# Altium footprint library LARIX_V5.PcbLib: 39 footprints (part 2 of 3)
Each footprint in its own frame and in the unit in brackets; x right, y up, seen from the top. Pads: shape width x height; smd on the part's side, far side on the other; paste and mask are expansions set on the pad; w line width, h text height; cw(c..) or ccw(c..) is an arc to the next point about the centre after c.
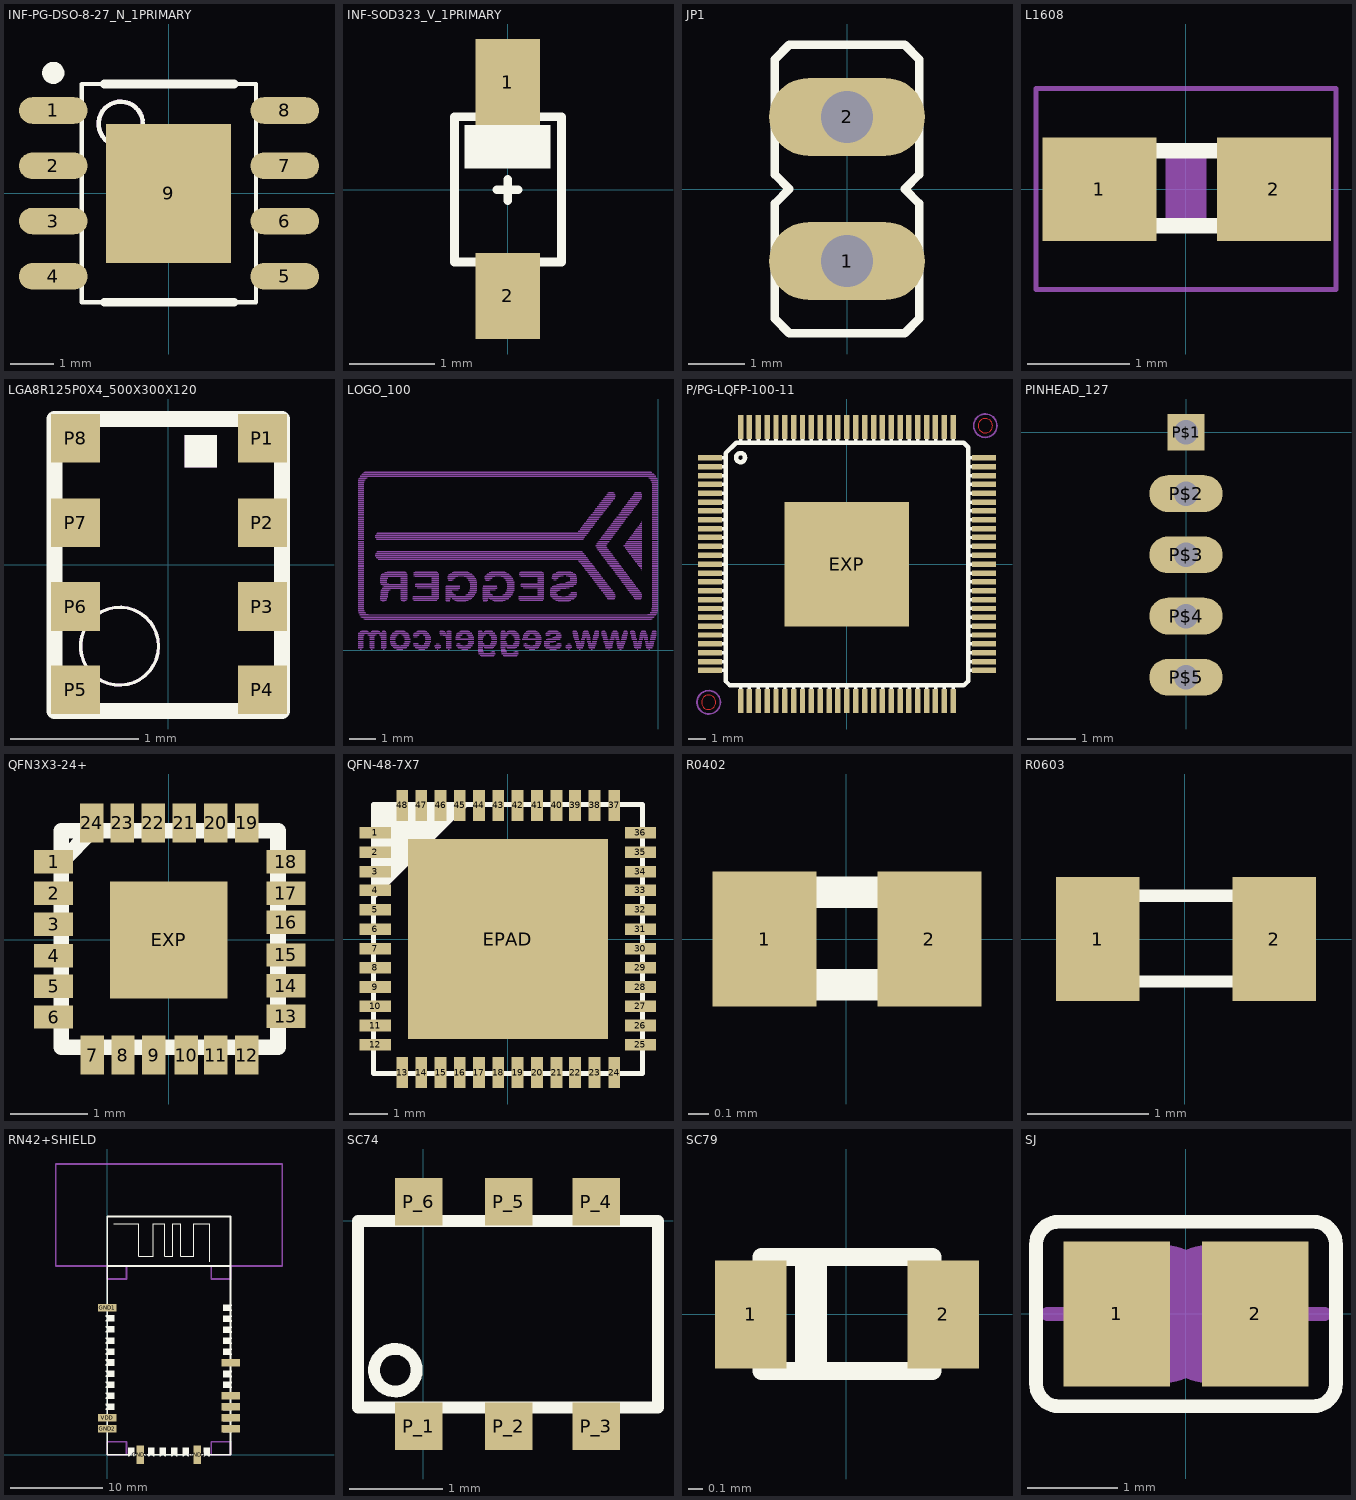
[diagram p1: the footprints below, top view; thin cyan lines are the x and y axes]

## INF-PG-DSO-8-27_N_1PRIMARY [mil] "INF-PG-DSO-8-27_N_1PRIMARY"
pads (9):
  rrect100% 62x24 smd: 1(-104.33,75) 2(-104.33,25) 3(-104.33,-25) 4(-104.33,-75) 5(105,-75) 6(105,-25) 7(105,25) 8(105,75)
  rect 113x126 smd: 9(0,0)
Top Overlay:
  circle w10: c-104.33,109 r5
  circle w4: c-43.31,63 r20
  circle w10: c-104.33,109 r5
  rectangle: -120,70 -80,80
  rectangle: -120,20 -80,30
  rectangle: -120,-30 -80,-20
  rectangle: -120,-80 -80,-70
  rectangle: 80,70 120,80
  rectangle: 80,20 120,30
  rectangle: 80,-30 120,-20
  rectangle: 80,-80 120,-70
  lines w4: -78.74,-98.43 -78.74,99 79,99 79,-98.43 -78.74,-98.43
  lines w8: -58.07,-98.43 59,-98.43 ; -58.07,99 59,99
Mechanical 2:
Mechanical 4:
Mechanical 13:
  circle w4: c-43.31,63 r20
  rectangle: -120,70 -80,80
  rectangle: -120,20 -80,30
  rectangle: -120,-30 -80,-20
  rectangle: -120,-80 -80,-70
  rectangle: 80,70 120,80
  rectangle: 80,20 120,30
  rectangle: 80,-30 120,-20
  rectangle: 80,-80 120,-70
  lines w4: -19.68,0 20,0 ; 0,-19.68 0,20
3D body: height 68.9, standoff 0.15, extent -123.26,-95 123.26,101.85

## INF-SOD323_V_1PRIMARY [mil] "INF-SOD323_V_1PRIMARY"
pads (2):
  rect 30x40 smd: 1(0,50) 2(0,-49.21)
Top Overlay:
  rectangle: -10,-55 10,-35
  rectangle: -10,35 10,55
  rectangle: -5,35 5,50
  rectangle: -20,10 20,30
  rectangle: -10,-55 10,-35
  rectangle: -10,35 10,55
  rectangle: -5,35 5,50
  rectangle: -20,10 20,30
  lines w4: -5,0 5,0 ; 0,-5 0,5 ; -24.61,-33.46 25,-33.46 25,34 -24.61,34 -24.61,-33.46
Mechanical 2:
Mechanical 4:
3D body: height 43.31, standoff 0, extent -24.6,-53.14 24.6,53.16

## JP1 [mil] "JP1"
pads (2):
  oval 108x54 hole 36: 1(0,-50) 2(0,50)
Top Overlay:
  lines w6: -50,-90 -40,-100 40,-100 50,-90 50,-10 40,0 50,10 50,90 40,100 -40,100 -50,90 -50,10 -40,0 -50,-10 -50,-90
Mechanical 2:
Mechanical 4:
Mechanical 16:
  rectangle: -12,-62 12,-38
  rectangle: -12,38 12,62

## L1608 [mil] "L1608"
pads (2):
  rect 44x40 smd: 1(-33.46,0) 2(34,0)
Top Overlay:
  rectangle: 17,-17 33,17
  rectangle: -33,-17 -17,17
  rectangle: 17,-17 33,17
  rectangle: -33,-17 -17,17
  lines w6: -17.01,-14.02 18,-14.02 ; -17.01,15 18,15
Mechanical 2:
Mechanical 4:
Mechanical 6:
  rectangle: -7.87,-15.75 8,16
  rectangle: -7.87,-15.75 8,16
Mechanical 16:
  lines w2: -57.99,-38.7 58,-38.7 58,39 -57.99,39 -57.99,-38.7
3D body: height 37.4, standoff 0, extent -31.49,-15.74 31.5,15.75

## LGA8R125P0X4_500X300X120 [mil] "LGA8R125P0X4_500X300X120"
pads (8):
  rect 15x15 smd: P1(29,39) P2(29,13) P3(29,-12.8) P4(29,-38.39) P5(-28.54,-38.39) P6(-28.54,-12.8) P7(-28.54,13) P8(-28.54,39)
Top Overlay:
  circle w1: c-15,-25 r12
  rectangle: 5,30 15,40
  lines w5: -35,-45 -35,45 35,45 35,-45 -35,-45
Mechanical 2:
Mechanical 4:
Mechanical 13:
  circle w1: c-15,-25 r12
  rectangle: 5,30 15,40
3D body: height 35, standoff 1.14, extent -49.21,-59.06 49.22,59.05

## LOGO_100 [mil] "LOGO_100"
Mechanical 16:
  drawing of 1903 lines, arcs and shapes, not listed

## P/PG-LQFP-100-11 [mil] "P/PG-LQFP-100-11"
pads (101):
  rect 54x12 smd: 1(-304.13,237) 2(-304.13,217) 3(-304.13,197) 4(-304.13,178) 5(-304.13,158) 6(-304.13,138) 7(-304.13,119) 8(-304.13,99) 9(-304.13,79) 10(-304.13,60) 11(-304.13,40) 12(-304.13,20) 13(-304.13,0) 14(-304.13,-19.68) 15(-304.13,-39.37) 16(-304.13,-59.06) 17(-304.13,-78.74) 18(-304.13,-98.43) 19(-304.13,-118.11) 20(-304.13,-137.8) 21(-304.13,-157.48) 22(-304.13,-177.17) 23(-304.13,-196.85) 24(-304.13,-216.54) 25(-304.13,-236.22) 51(305,-236.22) 52(305,-216.54) 53(305,-196.85) 54(305,-177.17) 55(305,-157.48) 56(305,-137.8) 57(305,-118.11) 58(305,-98.43) 59(305,-78.74) 60(305,-59.06) 61(305,-39.37) 62(305,-19.68) 63(305,0) 64(305,20) 65(305,40) 66(305,60) 67(305,79) 68(305,99) 69(305,119) 70(305,138) 71(305,158) 72(305,178) 73(305,197) 74(305,217) 75(305,237)
  rect 12x54 smd: 26(-236.22,-304.13) 27(-216.54,-304.13) 28(-196.85,-304.13) 29(-177.17,-304.13) 30(-157.48,-304.13) 31(-137.8,-304.13) 32(-118.11,-304.13) 33(-98.43,-304.13) 34(-78.74,-304.13) 35(-59.06,-304.13) 36(-39.37,-304.13) 37(-19.68,-304.13) 38(0,-304.13) 39(20,-304.13) 40(40,-304.13) 41(60,-304.13) 42(79,-304.13) 43(99,-304.13) 44(119,-304.13) 45(138,-304.13) 46(158,-304.13) 47(178,-304.13) 48(197,-304.13) 49(217,-304.13) 50(237,-304.13) 76(237,305) 77(217,305) 78(197,305) 79(178,305) 80(158,305) 81(138,305) 82(119,305) 83(99,305) 84(79,305) 85(60,305) 86(40,305) 87(20,305) 88(0,305) 89(-19.68,305) 90(-39.37,305) 91(-59.06,305) 92(-78.74,305) 93(-98.43,305) 94(-118.11,305) 95(-137.8,305) 96(-157.48,305) 97(-177.17,305) 98(-196.85,305) 99(-216.54,305) 100(-236.22,305)
  rect 276x276 smd: EXP(0,0)
Top Layer:
  circle w0: c-307.09,-307.09 r16
  circle w0: c308,308 r16
  circle w0: c-307.09,-307.09 r16
  circle w0: c308,308 r16
Top Overlay:
  drawing of 220 lines, arcs and shapes, not listed
Top Paste:
  region: -23.62,24 -23.62,-23.62 24,-23.62 24,24
  region: -80.9,23.81 -80.9,-23.43 -33.27,-23.43 -33.27,23.81
  region: -137.98,23.81 -137.98,-23.43 -90.36,-23.43 -90.36,23.81
  region: -23.31,81.31 -23.31,33.69 23.69,33.69 23.69,81.31
  region: -80.59,81.12 -80.59,33.87 -33.59,33.87 -33.59,81.12
  region: -137.67,81.12 -137.67,33.88 -90.67,33.88 -90.67,81.12
  region: -137.67,138.12 -137.67,90.88 -90.67,90.88 -90.67,138.12
  region: -80.59,138.13 -80.59,90.88 -33.59,90.88 -33.59,138.13
  region: -23.31,138.31 -23.31,90.69 23.69,90.69 23.69,138.31
  region: -80.71,-90.55 -80.71,-137.79 -33.46,-137.79 -33.46,-90.55
  region: -137.79,-90.55 -137.79,-137.79 -90.55,-137.79 -90.55,-90.55
  region: -80.71,-33.46 -80.71,-80.71 -33.46,-80.71 -33.46,-33.46
  region: -137.79,-33.46 -137.79,-80.71 -90.55,-80.71 -90.55,-33.46
  region: 90.88,-90.67 90.88,-137.67 138.12,-137.67 138.12,-90.67
  region: 33.88,-90.67 33.88,-137.67 81.12,-137.67 81.12,-90.67
  region: 90.88,-33.59 90.88,-80.59 138.12,-80.59 138.12,-33.59
  region: 33.88,-33.59 33.88,-80.59 81.12,-80.59 81.12,-33.59
  region: -23.43,-33.27 -23.43,-80.9 23.81,-80.9 23.81,-33.27
  region: -23.43,-90.36 -23.43,-137.98 23.81,-137.98 23.81,-90.36
  region: 91,81 91,34 138,34 138,81
  region: 34,81 34,34 81,34 81,81
  region: 91,138 91,91 138,91 138,138
  region: 34,138 34,91 81,91 81,138
  region: 33.69,23.69 33.69,-23.31 81.31,-23.31 81.31,23.69
  region: 90.69,23.69 90.69,-23.31 138.31,-23.31 138.31,23.69
  region: -23.62,24 -23.62,-23.62 24,-23.62 24,24
  region: -80.9,23.81 -80.9,-23.43 -33.27,-23.43 -33.27,23.81
  region: -137.98,23.81 -137.98,-23.43 -90.36,-23.43 -90.36,23.81
  region: -23.31,81.31 -23.31,33.69 23.69,33.69 23.69,81.31
  region: -80.59,81.12 -80.59,33.87 -33.59,33.87 -33.59,81.12
  region: -137.67,81.12 -137.67,33.88 -90.67,33.88 -90.67,81.12
  region: -137.67,138.12 -137.67,90.88 -90.67,90.88 -90.67,138.12
  region: -80.59,138.13 -80.59,90.88 -33.59,90.88 -33.59,138.13
  region: -23.31,138.31 -23.31,90.69 23.69,90.69 23.69,138.31
  region: -80.71,-90.55 -80.71,-137.79 -33.46,-137.79 -33.46,-90.55
  region: -137.79,-90.55 -137.79,-137.79 -90.55,-137.79 -90.55,-90.55
  region: -80.71,-33.46 -80.71,-80.71 -33.46,-80.71 -33.46,-33.46
  region: -137.79,-33.46 -137.79,-80.71 -90.55,-80.71 -90.55,-33.46
  region: 90.88,-90.67 90.88,-137.67 138.12,-137.67 138.12,-90.67
  region: 33.88,-90.67 33.88,-137.67 81.12,-137.67 81.12,-90.67
  region: 90.88,-33.59 90.88,-80.59 138.12,-80.59 138.12,-33.59
  region: 33.88,-33.59 33.88,-80.59 81.12,-80.59 81.12,-33.59
  region: -23.43,-33.27 -23.43,-80.9 23.81,-80.9 23.81,-33.27
  region: -23.43,-90.36 -23.43,-137.98 23.81,-137.98 23.81,-90.36
  region: 91,81 91,34 138,34 138,81
  region: 34,81 34,34 81,34 81,81
  region: 91,138 91,91 138,91 138,138
  region: 34,138 34,91 81,91 81,138
  region: 33.69,23.69 33.69,-23.31 81.31,-23.31 81.31,23.69
  region: 90.69,23.69 90.69,-23.31 138.31,-23.31 138.31,23.69
Top Solder:
  circle w0: c-307.09,-307.09 r26
  circle w0: c308,308 r26
  circle w0: c-307.09,-307.09 r26
  circle w0: c308,308 r26
Mechanical 2:
Mechanical 4:
Mechanical 8:
  circle w4: c-307.09,-307.09 r26
  circle w4: c308,308 r26
  circle w4: c-307.09,-307.09 r26
  circle w4: c308,308 r26
3D body: height 64.99, standoff 2, extent -315.24,-315.24 315.25,315.25

## PINHEAD_127 [mil] "PINHEAD_127"
pads (5):
  rect 30x30 hole 20: P$1(0,0)
  oval 60x30 hole 20: P$2(0,-50) P$3(0,-100) P$4(0,-150) P$5(0,-200)

## QFN3X3-24+ [mil] "QFN3X3-24+"
pads (25):
  rect 20x12 smd: 1(-59.06,40) 2(-59.06,24) 3(-59.06,8) 4(-59.06,-8.03) 5(-59.06,-23.78) 6(-59.06,-39.53) 13(60,-39.21) 14(60,-23.46) 15(60,-7.72) 16(60,9) 17(60,24) 18(60,40)
  rect 12x20 smd: 7(-39.21,-59.06) 8(-23.46,-59.06) 9(-7.72,-59.06) 10(9,-59.06) 11(24,-59.06) 12(40,-59.06) 19(40,60) 20(24,60) 21(8,60) 22(-8.03,60) 23(-23.78,60) 24(-39.53,60)
  rect 60x60 smd: EXP(0,0)
Top Overlay:
  lines w8: -53.09,42 -41.34,54 ; -55.06,-55.06 56,-55.06 56,56 -55.06,56 -55.06,-55.06
Top Solder:
  region: 0.49,77.51 0.49,43.49 15.49,43.49 15.49,77.51
  region: -15.38,77.38 -15.38,43.62 -0.38,43.62 -0.38,77.38
  rectangle: -31.5,-31.5 32,32
  region: 16.5,77.5 16.5,43.5 31.5,43.5 31.5,77.5
  region: 32,77 32,44 47,44 47,77
  region: -31.28,77.23 -31.28,43.77 -16.28,43.77 -16.28,77.23
  region: -47.03,77.23 -47.03,43.77 -32.03,43.77 -32.03,77.23
  region: 77,1 44,1 44,-15.59 77,-15.59
  region: 77,16 44,16 44,1 77,1
  region: 77,-15.59 44,-15.59 44,-31.34 77,-31.34
  region: 77,-31.34 44,-31.34 44,-47.09 77,-47.09
  region: 77,32 44,32 44,16 77,16
  region: 77,48 44,48 44,32 77,32
  rectangle: -76.77,-0.16 -43.3,16
  rectangle: -76.77,-15.9 -43.3,-0.16
  rectangle: -76.77,16 -43.3,32
  rectangle: -76.77,32 -43.3,48
  rectangle: -76.77,-31.65 -43.3,-15.9
  rectangle: -76.77,-47.4 -43.3,-31.65
  region: 0.65,-77.26 0.65,-42.81 -15.1,-42.81 -15.1,-77.26
  region: 16.02,-76.89 16.02,-43.19 0.28,-43.19 0.28,-76.89
  region: -15.59,-76.77 -15.59,-43.31 -31.34,-43.31 -31.34,-76.77
  region: -31.34,-76.77 -31.34,-43.31 -47.08,-43.31 -47.08,-76.77
  region: 32.37,-76.54 32.37,-43.54 16.63,-43.54 16.63,-76.54
  region: 47.87,-77.04 47.87,-43.04 32.13,-43.04 32.13,-77.04
Mechanical 2:
Mechanical 4:
3D body: height 34.65, standoff -0.79, extent -79.53,-80 79.53,79.06

## QFN-48-7X7 [mil] "QFN-48-7X7"
pads (49):
  rect 32x12 smd: 1(-135.83,109) 2(-135.83,89) 3(-135.83,69) 4(-135.83,50) 5(-135.83,30) 6(-135.83,10) 7(-135.83,-9.84) 8(-135.83,-29.53) 9(-135.83,-49.21) 10(-135.83,-68.9) 11(-135.83,-88.58) 12(-135.83,-108.27) 25(136,-108.27) 26(136,-88.58) 27(136,-68.9) 28(136,-49.21) 29(136,-29.53) 30(136,-9.84) 31(136,10) 32(136,30) 33(136,50) 34(136,69) 35(136,89) 36(136,109)
  rect 12x32 smd: 13(-108.27,-136.81) 14(-88.58,-136.81) 15(-68.9,-136.81) 16(-49.21,-136.81) 17(-29.53,-136.81) 18(-9.84,-136.81) 19(10,-136.81) 20(30,-136.81) 21(50,-136.81) 22(69,-136.81) 23(89,-136.81) 24(109,-136.81) 37(109,137) 38(89,137) 39(69,137) 40(50,137) 41(30,137) 42(10,137) 43(-9.84,137) 44(-29.53,137) 45(-49.21,137) 46(-68.9,137) 47(-88.58,137) 48(-108.27,137)
  rect 205x205 smd: EPAD(0,0)
Top Overlay:
  region: -137.8,138 -137.8,40 -39.37,138
  lines w5: -137.8,-118.11 -137.8,-137.8 ; -137.8,119 -137.8,138 ; -118.11,-137.8 -137.8,-137.8 ; -118.11,138 -137.8,138 ; 119,-137.8 138,-137.8 ; 119,138 138,138 ; 138,-118.11 138,-137.8 ; 138,119 138,138 ; -137.8,-137.8 -137.8,138 ; -137.8,-137.8 138,-137.8 ; -137.8,138 138,138 ; 138,-137.8 138,138
Top Paste:
  rectangle: -90.55,-90.55 91,91
  region: -113.27,151.76 -113.27,122.24 -103.27,122.24 -103.27,151.76
  region: -103.35,-151.57 -103.35,-122.05 -113.19,-122.05 -113.19,-151.57
  rectangle: -150.59,-113.19 -121.06,-103.35
  region: 151,114 122,114 122,104 151,104
  region: 104,152 104,122 114,122 114,152
  region: -93.58,151.76 -93.58,122.24 -83.58,122.24 -83.58,151.76
  region: -73.9,151.76 -73.9,122.24 -63.9,122.24 -63.9,151.76
  region: -54.21,151.76 -54.21,122.24 -44.21,122.24 -44.21,151.76
  region: -34.53,151.76 -34.53,122.24 -24.53,122.24 -24.53,151.76
  region: -14.8,151.8 -14.8,122.2 -4.8,122.2 -4.8,151.8
  region: 5.04,151.96 5.04,122.04 15.04,122.04 15.04,151.96
  region: 25,152 25,122 35,122 35,152
  region: 44.5,151.5 44.5,122.5 54.5,122.5 54.5,151.5
  region: 64.5,151.5 64.5,122.5 74.5,122.5 74.5,151.5
  region: 84,152 84,122 94,122 94,152
  region: 151,94 122,94 122,84 151,84
  region: 151,74 122,74 122,64 151,64
  region: 151,55 122,55 122,45 151,45
  region: 151,35 122,35 122,25 151,25
  region: 151,15 122,15 122,5 151,5
  region: 151,-4.92 122,-4.92 122,-14.76 151,-14.76
  region: 151,-24.61 122,-24.61 122,-34.45 151,-34.45
  region: 151,-44.29 122,-44.29 122,-54.13 151,-54.13
  region: 151,-63.98 122,-63.98 122,-73.82 151,-73.82
  region: 151,-83.66 122,-83.66 122,-93.5 151,-93.5
  region: 151,-103.35 122,-103.35 122,-113.19 151,-113.19
  region: 113.92,-151.81 113.92,-121.81 104.08,-121.81 104.08,-151.81
  region: 93.92,-151.81 93.92,-121.81 84.08,-121.81 84.08,-151.81
  region: 74.42,-151.31 74.42,-122.31 64.58,-122.31 64.58,-151.31
  region: 54.42,-151.31 54.42,-122.31 44.58,-122.31 44.58,-151.31
  region: 34.92,-151.81 34.92,-121.81 25.08,-121.81 25.08,-151.81
  region: 14.96,-151.77 14.96,-121.85 5.12,-121.85 5.12,-151.77
  region: -4.88,-151.61 -4.88,-122.01 -14.72,-122.01 -14.72,-151.61
  region: -24.61,-151.57 -24.61,-122.05 -34.45,-122.05 -34.45,-151.57
  region: -44.29,-151.57 -44.29,-122.05 -54.13,-122.05 -54.13,-151.57
  region: -63.98,-151.57 -63.98,-122.05 -73.82,-122.05 -73.82,-151.57
  region: -83.66,-151.57 -83.66,-122.05 -93.5,-122.05 -93.5,-151.57
  rectangle: -150.59,-93.5 -121.06,-83.66
  rectangle: -150.59,-73.82 -121.06,-63.98
  rectangle: -150.59,-54.13 -121.06,-44.29
  rectangle: -150.59,-34.45 -121.06,-24.61
  rectangle: -150.59,-14.76 -121.06,-4.92
  rectangle: -150.59,5 -121.06,15
  rectangle: -150.59,25 -121.06,35
  rectangle: -150.59,45 -121.06,55
  rectangle: -150.59,64 -121.06,74
  rectangle: -150.59,84 -121.06,94
  rectangle: -150.59,104 -121.06,114
  rectangle: -90.55,-90.55 91,91
  region: -113.27,151.76 -113.27,122.24 -103.27,122.24 -103.27,151.76
  region: -103.35,-151.57 -103.35,-122.05 -113.19,-122.05 -113.19,-151.57
  rectangle: -150.59,-113.19 -121.06,-103.35
  region: 151,114 122,114 122,104 151,104
  region: 104,152 104,122 114,122 114,152
  region: -93.58,151.76 -93.58,122.24 -83.58,122.24 -83.58,151.76
  region: -73.9,151.76 -73.9,122.24 -63.9,122.24 -63.9,151.76
  region: -54.21,151.76 -54.21,122.24 -44.21,122.24 -44.21,151.76
  region: -34.53,151.76 -34.53,122.24 -24.53,122.24 -24.53,151.76
  region: -14.8,151.8 -14.8,122.2 -4.8,122.2 -4.8,151.8
  region: 5.04,151.96 5.04,122.04 15.04,122.04 15.04,151.96
  region: 25,152 25,122 35,122 35,152
  region: 44.5,151.5 44.5,122.5 54.5,122.5 54.5,151.5
  region: 64.5,151.5 64.5,122.5 74.5,122.5 74.5,151.5
  region: 84,152 84,122 94,122 94,152
  region: 151,94 122,94 122,84 151,84
  region: 151,74 122,74 122,64 151,64
  region: 151,55 122,55 122,45 151,45
  region: 151,35 122,35 122,25 151,25
  region: 151,15 122,15 122,5 151,5
  region: 151,-4.92 122,-4.92 122,-14.76 151,-14.76
  region: 151,-24.61 122,-24.61 122,-34.45 151,-34.45
  region: 151,-44.29 122,-44.29 122,-54.13 151,-54.13
  region: 151,-63.98 122,-63.98 122,-73.82 151,-73.82
  region: 151,-83.66 122,-83.66 122,-93.5 151,-93.5
  region: 151,-103.35 122,-103.35 122,-113.19 151,-113.19
  region: 113.92,-151.81 113.92,-121.81 104.08,-121.81 104.08,-151.81
  region: 93.92,-151.81 93.92,-121.81 84.08,-121.81 84.08,-151.81
  region: 74.42,-151.31 74.42,-122.31 64.58,-122.31 64.58,-151.31
  region: 54.42,-151.31 54.42,-122.31 44.58,-122.31 44.58,-151.31
  region: 34.92,-151.81 34.92,-121.81 25.08,-121.81 25.08,-151.81
  region: 14.96,-151.77 14.96,-121.85 5.12,-121.85 5.12,-151.77
  region: -4.88,-151.61 -4.88,-122.01 -14.72,-122.01 -14.72,-151.61
  region: -24.61,-151.57 -24.61,-122.05 -34.45,-122.05 -34.45,-151.57
  region: -44.29,-151.57 -44.29,-122.05 -54.13,-122.05 -54.13,-151.57
  region: -63.98,-151.57 -63.98,-122.05 -73.82,-122.05 -73.82,-151.57
  region: -83.66,-151.57 -83.66,-122.05 -93.5,-122.05 -93.5,-151.57
  rectangle: -150.59,-93.5 -121.06,-83.66
  rectangle: -150.59,-73.82 -121.06,-63.98
  rectangle: -150.59,-54.13 -121.06,-44.29
  rectangle: -150.59,-34.45 -121.06,-24.61
  rectangle: -150.59,-14.76 -121.06,-4.92
  rectangle: -150.59,5 -121.06,15
  rectangle: -150.59,25 -121.06,35
  rectangle: -150.59,45 -121.06,55
  rectangle: -150.59,64 -121.06,74
  rectangle: -150.59,84 -121.06,94
  rectangle: -150.59,104 -121.06,114
Top Solder:
  region: -116.27,154.72 -116.27,119.28 -100.27,119.28 -100.27,154.72
  region: -100.39,-154.53 -100.39,-119.09 -116.14,-119.09 -116.14,-154.53
  rectangle: -153.54,-116.14 -118.11,-100.39
  region: 154,117 119,117 119,101 154,101
  region: 100.5,154.5 100.5,119.5 116.5,119.5 116.5,154.5
  region: -96.58,154.72 -96.58,119.28 -80.58,119.28 -80.58,154.72
  region: -76.9,154.72 -76.9,119.28 -60.9,119.28 -60.9,154.72
  region: -57.21,154.72 -57.21,119.28 -41.21,119.28 -41.21,154.72
  region: -37.53,154.72 -37.53,119.28 -21.53,119.28 -21.53,154.72
  region: -17.78,154.78 -17.78,119.22 -1.78,119.22 -1.78,154.78
  region: 2.06,154.94 2.06,119.06 18.06,119.06 18.06,154.94
  region: 22,155 22,119 38,119 38,155
  region: 41.5,154.5 41.5,119.5 57.5,119.5 57.5,154.5
  region: 61.5,154.5 61.5,119.5 77.5,119.5 77.5,154.5
  region: 81,155 81,119 97,119 97,155
  region: 154,97 119,97 119,81 154,81
  region: 154,77 119,77 119,62 154,62
  region: 154,58 119,58 119,42 154,42
  region: 154,38 119,38 119,22 154,22
  region: 154,18 119,18 119,2 154,2
  region: 154,-1.97 119,-1.97 119,-17.72 154,-17.72
  region: 154,-21.65 119,-21.65 119,-37.4 154,-37.4
  region: 154,-41.34 119,-41.34 119,-57.09 154,-57.09
  region: 154,-61.02 119,-61.02 119,-76.77 154,-76.77
  region: 154,-80.71 119,-80.71 119,-96.46 154,-96.46
  region: 154,-100.39 119,-100.39 119,-116.14 154,-116.14
  region: 116.37,-154.31 116.37,-119.31 100.63,-119.31 100.63,-154.31
  region: 96.87,-154.81 96.87,-118.81 81.13,-118.81 81.13,-154.81
  region: 77.37,-154.31 77.37,-119.31 61.63,-119.31 61.63,-154.31
  region: 57.37,-154.31 57.37,-119.31 41.63,-119.31 41.63,-154.31
  region: 37.87,-154.81 37.87,-118.81 22.13,-118.81 22.13,-154.81
  region: 17.94,-154.75 17.94,-118.87 2.19,-118.87 2.19,-154.75
  region: -1.91,-154.59 -1.91,-119.03 -17.65,-119.03 -17.65,-154.59
  region: -21.65,-154.53 -21.65,-119.09 -37.4,-119.09 -37.4,-154.53
  region: -41.34,-154.53 -41.34,-119.09 -57.09,-119.09 -57.09,-154.53
  region: -61.02,-154.53 -61.02,-119.09 -76.77,-119.09 -76.77,-154.53
  region: -80.71,-154.53 -80.71,-119.09 -96.46,-119.09 -96.46,-154.53
  rectangle: -153.54,-96.46 -118.11,-80.71
  rectangle: -153.54,-76.77 -118.11,-61.02
  rectangle: -153.54,-57.09 -118.11,-41.34
  rectangle: -153.54,-37.4 -118.11,-21.65
  rectangle: -153.54,-17.72 -118.11,-1.97
  rectangle: -153.54,2 -118.11,18
  rectangle: -153.54,22 -118.11,38
  rectangle: -153.54,42 -118.11,58
  rectangle: -153.54,62 -118.11,77
  rectangle: -153.54,81 -118.11,97
  rectangle: -153.54,101 -118.11,117
  region: -116.27,154.72 -116.27,119.28 -100.27,119.28 -100.27,154.72
  region: -100.39,-154.53 -100.39,-119.09 -116.14,-119.09 -116.14,-154.53
  rectangle: -153.54,-116.14 -118.11,-100.39
  region: 154,117 119,117 119,101 154,101
  region: 100.5,154.5 100.5,119.5 116.5,119.5 116.5,154.5
  region: -96.58,154.72 -96.58,119.28 -80.58,119.28 -80.58,154.72
  region: -76.9,154.72 -76.9,119.28 -60.9,119.28 -60.9,154.72
  region: -57.21,154.72 -57.21,119.28 -41.21,119.28 -41.21,154.72
  region: -37.53,154.72 -37.53,119.28 -21.53,119.28 -21.53,154.72
  region: -17.78,154.78 -17.78,119.22 -1.78,119.22 -1.78,154.78
  region: 2.06,154.94 2.06,119.06 18.06,119.06 18.06,154.94
  region: 22,155 22,119 38,119 38,155
  region: 41.5,154.5 41.5,119.5 57.5,119.5 57.5,154.5
  region: 61.5,154.5 61.5,119.5 77.5,119.5 77.5,154.5
  region: 81,155 81,119 97,119 97,155
  region: 154,97 119,97 119,81 154,81
  region: 154,77 119,77 119,62 154,62
  region: 154,58 119,58 119,42 154,42
  region: 154,38 119,38 119,22 154,22
  region: 154,18 119,18 119,2 154,2
  region: 154,-1.97 119,-1.97 119,-17.72 154,-17.72
  region: 154,-21.65 119,-21.65 119,-37.4 154,-37.4
  region: 154,-41.34 119,-41.34 119,-57.09 154,-57.09
  region: 154,-61.02 119,-61.02 119,-76.77 154,-76.77
  region: 154,-80.71 119,-80.71 119,-96.46 154,-96.46
  region: 154,-100.39 119,-100.39 119,-116.14 154,-116.14
  region: 116.37,-154.31 116.37,-119.31 100.63,-119.31 100.63,-154.31
  region: 96.87,-154.81 96.87,-118.81 81.13,-118.81 81.13,-154.81
  region: 77.37,-154.31 77.37,-119.31 61.63,-119.31 61.63,-154.31
  region: 57.37,-154.31 57.37,-119.31 41.63,-119.31 41.63,-154.31
  region: 37.87,-154.81 37.87,-118.81 22.13,-118.81 22.13,-154.81
  region: 17.94,-154.75 17.94,-118.87 2.19,-118.87 2.19,-154.75
  region: -1.91,-154.59 -1.91,-119.03 -17.65,-119.03 -17.65,-154.59
  region: -21.65,-154.53 -21.65,-119.09 -37.4,-119.09 -37.4,-154.53
  region: -41.34,-154.53 -41.34,-119.09 -57.09,-119.09 -57.09,-154.53
  region: -61.02,-154.53 -61.02,-119.09 -76.77,-119.09 -76.77,-154.53
  region: -80.71,-154.53 -80.71,-119.09 -96.46,-119.09 -96.46,-154.53
  rectangle: -153.54,-96.46 -118.11,-80.71
  rectangle: -153.54,-76.77 -118.11,-61.02
  rectangle: -153.54,-57.09 -118.11,-41.34
  rectangle: -153.54,-37.4 -118.11,-21.65
  rectangle: -153.54,-17.72 -118.11,-1.97
  rectangle: -153.54,2 -118.11,18
  rectangle: -153.54,22 -118.11,38
  rectangle: -153.54,42 -118.11,58
  rectangle: -153.54,62 -118.11,77
  rectangle: -153.54,81 -118.11,97
  rectangle: -153.54,101 -118.11,117
Mechanical 2:
Mechanical 4:
Mechanical 16:
  region: -137.8,138 -137.8,40 -39.37,138
3D body: height 34.71, standoff 3.21, extent -138.19,-138.18 138.19,138.2

## R0402 [mil] "R0402"
pads (2):
  rect 20x26 smd: 1(-15.75,0) 2(16,0)
Top Overlay:
  rectangle: -21.81,-12 -10,12
  rectangle: 11,-12 22,12
  rectangle: -21.81,-12 -10,12
  rectangle: 11,-12 22,12
  lines w6: -9.65,-8.82 10,-8.82 ; -9.65,9 10,9
Mechanical 2:
Mechanical 4:
3D body: height 10.79, standoff 0, extent -19.68,-9.88 19.69,9.89

## R0603 [mil] "R0603"
pads (2):
  rect 27x40 smd: 1(-28.15,0) 2(29,0)
Top Overlay:
  rectangle: -31.5,-15.75 -17.72,16
  rectangle: 18,-15.75 32,16
  rectangle: -31.5,-15.75 -17.72,16
  rectangle: 18,-15.75 32,16
  lines w4: -28.54,-13.78 29,-13.78 ; -28.54,14 29,14
Mechanical 2:
Mechanical 4:
3D body: height 14.72, standoff 0, extent -31.49,-15.78 31.5,15.8

## RN42+SHIELD [mil] "RN42+SHIELD"
pads (10):
  rect 79x32 smd: GND1(0,630) GND2(0,111) GPIO_2(528,394) UART_CTX(528,252) UART_RTX(528,205) UART_RX(528,111) UART_TX(528,158) VDD(0,158)
  rect 32x79 smd: GND3(142,0) GND4(386,0)
Top Overlay:
  drawing of 85 lines, arcs and shapes, not listed
Mechanical 2:
Mechanical 4:
Mechanical 8:
  lines w8: 0,808 0,752 83,752 83,808 ; 0,808 83,808 ; 0,808 -220.47,808 -220.47,1245 749,1245 749,808 528,808 ; 83,808 445,808 ; 445,808 445,752 528,752 528,808 ; 445,808 528,808 ; 0,0 0,56 83,56 83,0 0,0 ; 445,0 445,56 528,56 528,0 445,0
3D body: height 78.74, standoff 0, extent 18,17 515,995

## SC74 [mil] "SC74"
pads (6):
  rect 20x20 smd: P_1(-1.97,-86.61) P_2(36,-86.61) P_3(73,-86.61) P_4(73,8) P_5(36,8) P_6(-1.97,8)
Top Overlay:
  circle w5: c-11.81,-62.99 r9
  circle w5: c-11.81,-62.99 r9
  rectangle: 67,-93 79,-79
  rectangle: 29,-93 41,-79
  rectangle: -8,-93 4,-79
  rectangle: 67,0 79,14
  rectangle: 29,0 41,14
  rectangle: -8,0 4,14
  rectangle: 67,-93 79,-79
  rectangle: 29,-93 41,-79
  rectangle: -8,-93 4,-79
  rectangle: 67,0 79,14
  rectangle: 29,0 41,14
  rectangle: -8,0 4,14
  lines w5: -27.56,-78.74 99,-78.74 99,0 -27.56,0 -27.56,-78.74
Mechanical 2:
Mechanical 4:
3D body: height 37.01, standoff -3.36, extent -24.06,-94.57 94.05,14.52

## SC79 [mil] "SC79"
pads (2):
  rect 20x30 smd: 1(-26.57,0) 2(27,0)
Top Overlay:
  rectangle: -31.5,-3.94 -23.62,4
  rectangle: 24,-3.94 32,4
  rectangle: -31.5,-3.94 -23.62,4
  rectangle: 24,-3.94 32,4
  lines w5: -11.81,-15.75 -23.62,-15.75 -23.62,16 -11.81,16 ; -11.81,-15.75 -11.81,16 ; -11.81,-15.75 -7.87,-15.75 ; -11.81,16 -7.87,16 ; -7.87,-15.75 24,-15.75 24,16 -7.87,16 ; -7.87,-15.75 -7.87,16
Mechanical 2:
Mechanical 4:
3D body: height 24.45, standoff -0.04, extent -33.47,-17.72 33.47,17.72

## SJ [mil] "SJ"
pads (2):
  rect 46x63 smd: 1(-30,0) 2(30,0)
Top Overlay:
  lines w6: -65,-30 ccw(c-55,-30) -55,-40 55,-40 ccw(c55,-30) 65,-30 65,30 ccw(c55,30) 55,40 -55,40 ccw(c-55,30) -65,30 -65,-30
Top Solder:
  rectangle: -3,-36 3,36
Mechanical 2:
Mechanical 4:
Mechanical 16:
  lines w6: -60,0 -40,0 ; 40,0 60,0
  lines w50: -10,-5 cw(c-10,0) -10,5 ; 10,-5 ccw(c10,0) 10,5